# EAGLE library part MCP6541 (library BME_Components)
Push-Pull Output Sub-Microamp Comparator, 8-Pin PDIP, Extended Temperature
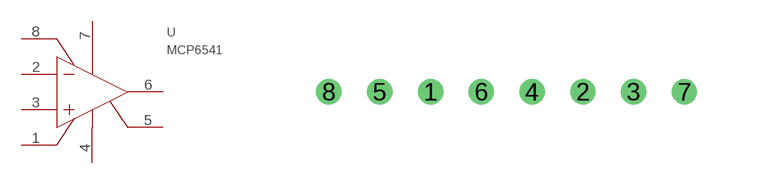
[diagram p6: symbol with the pads of MCP6541_PDIP-8; footprint MCP6541_PDIP-8]

Designator prefix U

## MCP6541MCP6541_MCP6541_PDIP-8 (CODE_JEDEC: MS-001; COMPONENTLINK1DESCRIPTION: Manufacturer URL; COMPONENTLINK1URL: http://www.microchip.com/; COMPONENTLINK2DESCRIPTION: Datasheet; COMPONENTLINK2URL: http://ww1.microchip.com/downloads/en/DeviceDoc/21696H.pdf; COMPONENTLINK3DESCRIPTION: Package Specification; COMPONENTLINK3URL: http://www.microchip.com/stellent/groups/techpub_sg/documents/packagingspec/en012702.pdf; DATASHEETVERSION: revH, Dec-2011; PACKAGEDESCRIPTION: 8-Lead Plastic Dual In-Line (P) - 300 mil Body [PDIP]; PACKAGEREFERENCE: PDIP300-P8; PACKAGEVERSION: revBB, Aug-2009; REVISIONNOTE: URLs added. DatasheetVersion updated.)  [MCP6541_PDIP-8]
1  NC  pas
2  VIN-  in
3  VIN+  in
4  VSS  pwr
5  NC  pas
6  OUT  out
7  VDD  pwr
8  NC  pas

## Footprint MCP6541_PDIP-8 (pad centres in mm)
drill 0.127 pad 0.254 round: 1 2.54,0; 2 6.35,0; 3 7.62,0; 4 5.08,0; 5 1.27,0; 6 3.81,0; 7 8.89,0; 8 0,0